# Altium schematic symbol library 06035C105KAT2A.SchLib: 1 symbol
Pins are listed as number, name and electrical type; pins without a type are passive.

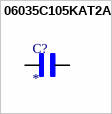
[diagram p0: symbol 06035C105KAT2A]

## 06035C105KAT2A
designator C?
MF: {'manufacturer': u'KYOCERA AVX Components Corporation'}; MP: 06035C105KAT2A; Package: None; Price: None; Value: *; Availability: Unavailable
footprint CAPC1608X94N
pins: 1, 2